# Altium schematic symbol library JUMPER2.SchLib: 1 symbol
Pins are listed as number, name and electrical type; pins without a type are passive.

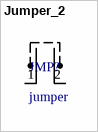
[diagram p0: symbol Jumper_2]

## Jumper_2
designator JMP?, comment jumper
footprint JUMPER2
pins: 1, 2